# Altium schematic symbol library Schlib.SchLib: 3 symbols
Pins are listed as number, name and electrical type; pins without a type are passive.

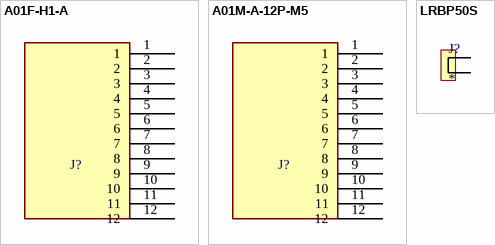
[diagram p0: symbols A01F-H1-A to LRBP50S]

## A01F-H1-A
designator J?, comment A01F-H1-A Female  (value not drawn)
ComponentLink1Description: New link; ComponentLink1URL: https://www.aliexpress.us/item/3256806678504944.html?spm=a2g0o.detail.pcDetailBottomMoreOtherSeller.2.357aedyPedyPyt&gps-id=pcDetailBottomMoreOtherSeller&scm=1007.40050.354490.0&scm_id=1007.40050.354490.0&scm-url=1007.40050.354490.0&pvid=a768a161-9901-4811-b101-05a15b7a8653&_t=gps-id:pcDetailBottomMoreOtherSeller,scm-url:1007.40050.354490.0,pvid:a768a161-9901-4811-b101-05a15b7a8653,tpp_buckets:668%232846%238110%231995&isseo=y&pdp_npi=4%40dis%21USD%211.52%210.99%21%21%211.52%210.99%21%402103244617225425575533636e8077%2112000038560097796%21rec%21US%21%21ABX&utparam-url=scene%3ApcDetailBottomMoreOtherSeller%7Cquery_from%3A
footprint A01F-H1-A
footprint A01F-H1-A
pins: 1, 2, 3, 4, 5, 6, 7, 8, 9, 10, 11, 12

## A01M-A-12P-M5
designator J?, comment A01M-A-12P-M5 Male  (value not drawn)
ComponentLink1Description: New link; ComponentLink1URL: https://www.aliexpress.us/item/3256806678504944.html?spm=a2g0o.detail.pcDetailBottomMoreOtherSeller.2.357aedyPedyPyt&gps-id=pcDetailBottomMoreOtherSeller&scm=1007.40050.354490.0&scm_id=1007.40050.354490.0&scm-url=1007.40050.354490.0&pvid=a768a161-9901-4811-b101-05a15b7a8653&_t=gps-id:pcDetailBottomMoreOtherSeller,scm-url:1007.40050.354490.0,pvid:a768a161-9901-4811-b101-05a15b7a8653,tpp_buckets:668%232846%238110%231995&isseo=y&pdp_npi=4%40dis%21USD%211.52%210.99%21%21%211.52%210.99%21%402103244617225425575533636e8077%2112000038560097796%21rec%21US%21%21ABX&utparam-url=scene%3ApcDetailBottomMoreOtherSeller%7Cquery_from%3A
footprint A01M-A-7P-M5
footprint A01M-A-7P-M5
pins: 1, 2, 3, 4, 5, 6, 7, 8, 9, 10, 11, 12

## LRBP50S
designator J?
footprint LRBP50S (Laser Robotic Battery Pin 50 mm Straight)
pins: 1, 2